# Altium footprint library OSC_CX2016DB48000C0FPLC1.PcbLib: 1 footprints
Each footprint in its own frame and in the unit in brackets; x right, y up, seen from the top. Pads: shape width x height; smd on the part's side, far side on the other; paste and mask are expansions set on the pad; w line width, h text height; cw(c..) or ccw(c..) is an arc to the next point about the centre after c.
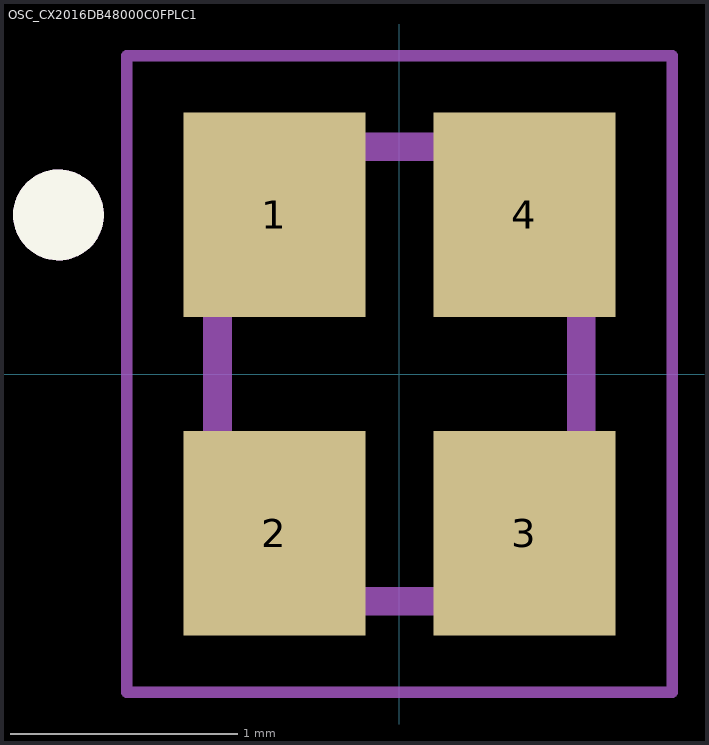
[diagram p0: the footprint, top view; thin cyan lines are the x and y axes]

## OSC_CX2016DB48000C0FPLC1 [mm]
height 0.45
pads (4):
  rect 0.8x0.9 smd: 1(-0.55,0.7) 2(-0.55,-0.7) 3(0.55,-0.7) 4(0.55,0.7)
Top Overlay:
  circle w0.2: c-1.5,0.7 r0.1
Assembly Top:
  circle w0.2: c-1.5,0.7 r0.1
  lines w0.127: -0.8,-1 0.8,-1 0.8,1 -0.8,1 -0.8,-1
Courtyard Top:
  lines w0.05: -1.2,-1.4 -1.2,1.4 1.2,1.4 1.2,-1.4 -1.2,-1.4
3D body "step_temp.STEP": height 0.45, standoff 0, extent -0.8,-1 0.8,1